# Altium schematic symbol library CONN-STD-2P_BATTERY.SchLib: 1 symbol
Pins are listed as number, name and electrical type; pins without a type are passive.

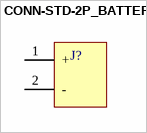
[diagram p0: symbol CONN-STD-2P_BATTERY]

## CONN-STD-2P_BATTERY
designator J?  (value not drawn)
pins: 1 +, 2 -